# Altium footprint library RESC3216X60N.PcbLib: 1 footprints
Each footprint in its own frame and in the unit in brackets; x right, y up, seen from the top. Pads: shape width x height; smd on the part's side, far side on the other; paste and mask are expansions set on the pad; w line width, h text height; cw(c..) or ccw(c..) is an arc to the next point about the centre after c.
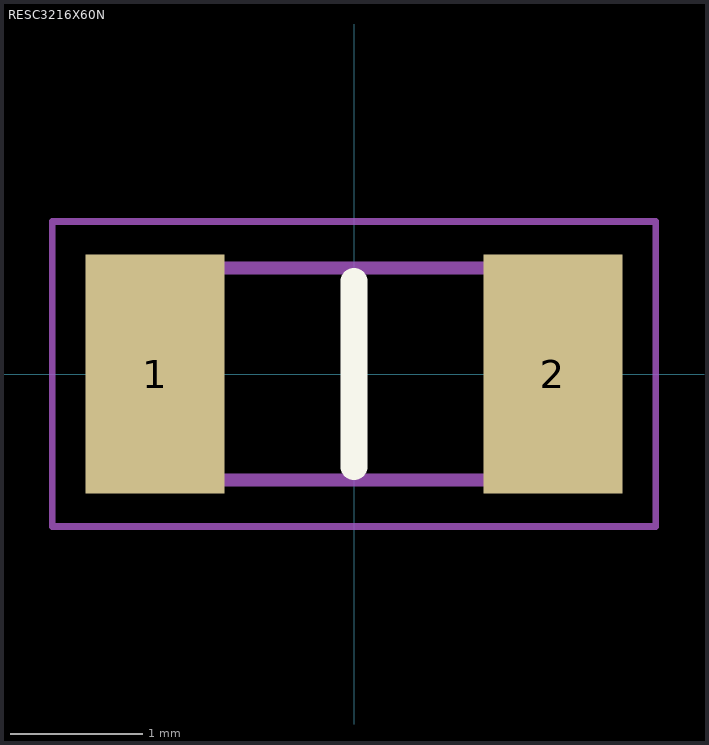
[diagram p0: the footprint, top view; thin cyan lines are the x and y axes]

## RESC3216X60N [mm]
pads (2):
  rect 1.05x1.8 smd: 1(-1.5,0) 2(1.5,0)
L26-Silk Screen Top (Multiple PADS layers...):
  lines w0.2: 0,-0.7 0,0.7
L15 (Multiple PADS layers...):
  lines w0.1: -1.575,-0.8 -1.575,0.8 1.575,0.8 1.575,-0.8 -1.575,-0.8
L20:
  lines w0.05: -2.275,-1.15 -2.275,1.15 2.275,1.15 2.275,-1.15 -2.275,-1.15
3D body "CRCW12063K30FKEAC.stp": height 0.6, standoff 0, extent -1.575,-0.825 1.575,0.775
3D body: height 1.2, standoff 0, extent 0,-0.025 0,-0.025